# Altium schematic symbol library Ports2.54.SchLib: 37 symbols
Pins are listed as number, name and electrical type; pins without a type are passive.

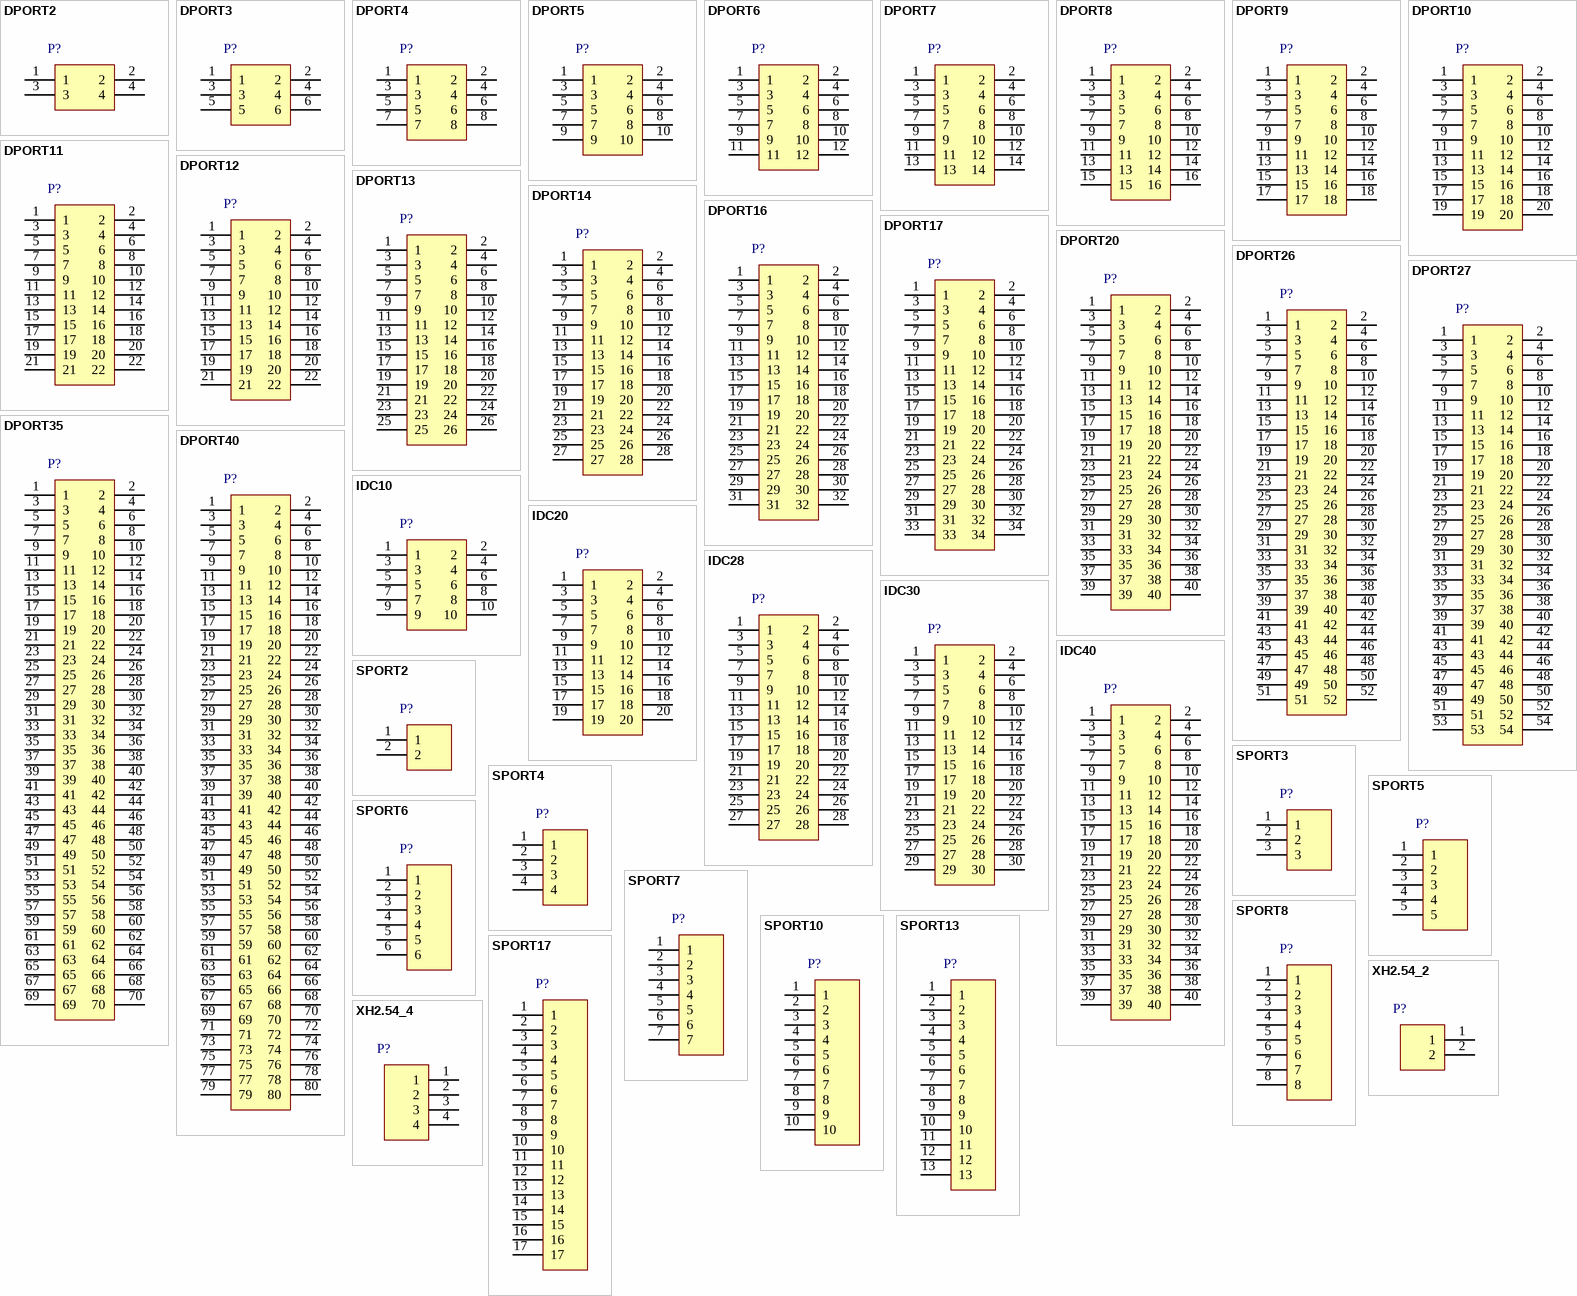
[diagram p0: symbols DPORT2 to XH2.54_4]

## DPORT2
designator P?, comment Dual 2 pin port  (value not drawn)
footprint 201S2X2
footprint 201S2X2_SMD
pins: 1, 2, 3, 4

## DPORT3
designator P?, comment Dual 3 pin port  (value not drawn)
footprint 201S2X3
pins: 1, 2, 3, 4, 5, 6

## DPORT4
designator P?, comment Dual 4 pin port  (value not drawn)
footprint 201S2X4
pins: 1, 2, 3, 4, 5, 6, 7, 8

## DPORT5
designator P?, comment Dual 5 pin port  (value not drawn)
footprint 201S2X5
pins: 1, 2, 3, 4, 5, 6, 7, 8, 9, 10

## DPORT6
designator P?, comment Dual 6 pin port  (value not drawn)
footprint 201S2X6
pins: 1, 2, 3, 4, 5, 6, 7, 8, 9, 10, 11, 12

## DPORT7
designator P?, comment Dual 7 pin port  (value not drawn)
footprint 201S2X7
pins: 1, 2, 3, 4, 5, 6, 7, 8, 9, 10, 11, 12, 13, 14

## DPORT8
designator P?, comment Dual 8 pin port  (value not drawn)
footprint 201S2X8
pins: 1, 2, 3, 4, 5, 6, 7, 8, 9, 10, 11, 12, 13, 14, 15, 16

## DPORT9
designator P?, comment Dual 9 pin port  (value not drawn)
footprint 201S2X9
pins: 1, 2, 3, 4, 5, 6, 7, 8, 9, 10, 11, 12, 13, 14, 15, 16, 17, 18

## DPORT10
designator P?, comment Dual 10 pin port  (value not drawn)
footprint 201S2X10
pins: 1, 2, 3, 4, 5, 6, 7, 8, 9, 10, 11, 12, 13, 14, 15, 16, 17, 18, 19, 20

## DPORT11
designator P?, comment Dual 11 pin port  (value not drawn)
footprint 201S2X11
pins: 1, 2, 3, 4, 5, 6, 7, 8, 9, 10, 11, 12, 13, 14, 15, 16, 17, 18, 19, 20, 21, 22

## DPORT12
designator P?, comment Dual 12 pin port  (value not drawn)
footprint 201S2X12
pins: 1, 2, 3, 4, 5, 6, 7, 8, 9, 10, 11, 12, 13, 14, 15, 16, 17, 18, 19, 20, 21, 22

## DPORT13
designator P?, comment Dual 13 pin port  (value not drawn)
footprint 201S2X13
pins: 1, 2, 3, 4, 5, 6, 7, 8, 9, 10, 11, 12, 13, 14, 15, 16, 17, 18, 19, 20, 21, 22, 23, 24, 25, 26

## DPORT14
designator P?, comment Dual 14 pin port  (value not drawn)
footprint 201S2X14
pins: 1, 2, 3, 4, 5, 6, 7, 8, 9, 10, 11, 12, 13, 14, 15, 16, 17, 18, 19, 20, 21, 22, 23, 24, 25, 26, 27, 28

## DPORT16
designator P?, comment Dual 16 pin port  (value not drawn)
footprint 201S2X16
pins: 1, 2, 3, 4, 5, 6, 7, 8, 9, 10, 11, 12, 13, 14, 15, 16, 17, 18, 19, 20, 21, 22, 23, 24, 25, 26, 27, 28, 29, 30, 31, 32

## DPORT17
designator P?, comment Dual 17 pin port  (value not drawn)
footprint 201S2X17
pins: 1, 2, 3, 4, 5, 6, 7, 8, 9, 10, 11, 12, 13, 14, 15, 16, 17, 18, 19, 20, 21, 22, 23, 24, 25, 26, 27, 28, 29, 30, 31, 32, 33, 34

## DPORT20
designator P?, comment Dual 20 pin port  (value not drawn)
footprint 201S2X20
pins: 1, 2, 3, 4, 5, 6, 7, 8, 9, 10, 11, 12, 13, 14, 15, 16, 17, 18, 19, 20, 21, 22, 23, 24, 25, 26, 27, 28, 29, 30, 31, 32, 33, 34, 35, 36, 37, 38, 39, 40

## DPORT26
designator P?, comment Dual 26 pin port  (value not drawn)
footprint 201S2X26 (Footprint not found)
pins: 1, 2, 3, 4, 5, 6, 7, 8, 9, 10, 11, 12, 13, 14, 15, 16, 17, 18, 19, 20, 21, 22, 23, 24, 25, 26, 27, 28, 29, 30, 31, 32, 33, 34, 35, 36, 37, 38, 39, 40, 41, 42, 43, 44, 45, 46, 47, 48, 49, 50, 51, 52

## DPORT27
designator P?, comment Dual 27 pin port  (value not drawn)
footprint 201S2X27 (Footprint not found)
pins: 1, 2, 3, 4, 5, 6, 7, 8, 9, 10, 11, 12, 13, 14, 15, 16, 17, 18, 19, 20, 21, 22, 23, 24, 25, 26, 27, 28, 29, 30, 31, 32, 33, 34, 35, 36, 37, 38, 39, 40, 41, 42, 43, 44, 45, 46, 47, 48, 49, 50, 51, 52, 53, 54

## DPORT35
designator P?, comment Dual 35 pin port  (value not drawn)
footprint 201S2X35 (Footprint not found)
pins: 1, 2, 3, 4, 5, 6, 7, 8, 9, 10, 11, 12, 13, 14, 15, 16, 17, 18, 19, 20, 21, 22, 23, 24, 25, 26, 27, 28, 29, 30, 31, 32, 33, 34, 35, 36, 37, 38, 39, 40, 41, 42, 43, 44, 45, 46, 47, 48, 49, 50, 51, 52, 53, 54, 55, 56, 57, 58, 59, 60, 61, 62, 63, 64, 65, 66, 67, 68, 69, 70

## DPORT40
designator P?, comment Dual 40 pin port  (value not drawn)
footprint 201S2X40 (Footprint not found)
pins: 1, 2, 3, 4, 5, 6, 7, 8, 9, 10, 11, 12, 13, 14, 15, 16, 17, 18, 19, 20, 21, 22, 23, 24, 25, 26, 27, 28, 29, 30, 31, 32, 33, 34, 35, 36, 37, 38, 39, 40, 41, 42, 43, 44, 45, 46, 47, 48, 49, 50, 51, 52, 53, 54, 55, 56, 57, 58, 59, 60, 61, 62, 63, 64, 65, 66, 67, 68, 69, 70, 71, 72, 73, 74, 75, 76, 77, 78, 79, 80

## IDC10
designator P?  (value not drawn)
footprint IDC10
footprint IDC10_RA (Right angle)
pins: 1, 2, 3, 4, 5, 6, 7, 8, 9, 10

## IDC20
designator P?  (value not drawn)
footprint IDC20
footprint IDC20_RA (Right angle)
pins: 1, 2, 3, 4, 5, 6, 7, 8, 9, 10, 11, 12, 13, 14, 15, 16, 17, 18, 19, 20

## IDC28
designator P?  (value not drawn)
footprint IDC28
pins: 1, 2, 3, 4, 5, 6, 7, 8, 9, 10, 11, 12, 13, 14, 15, 16, 17, 18, 19, 20, 21, 22, 23, 24, 25, 26, 27, 28

## IDC30
designator P?  (value not drawn)
footprint IDC30
pins: 1, 2, 3, 4, 5, 6, 7, 8, 9, 10, 11, 12, 13, 14, 15, 16, 17, 18, 19, 20, 21, 22, 23, 24, 25, 26, 27, 28, 29, 30

## IDC40
designator P?  (value not drawn)
footprint IDC40
pins: 1, 2, 3, 4, 5, 6, 7, 8, 9, 10, 11, 12, 13, 14, 15, 16, 17, 18, 19, 20, 21, 22, 23, 24, 25, 26, 27, 28, 29, 30, 31, 32, 33, 34, 35, 36, 37, 38, 39, 40

## SPORT2
designator P?, comment Single 2 pin port  (value not drawn)
footprint 201S1X2
pins: 1, 2

## SPORT3
designator P?, comment Single 3 pin port  (value not drawn)
footprint 201S1X3 (Footprint not found)
pins: 1, 2, 3

## SPORT4
designator P?, comment Single 4 pin port  (value not drawn)
footprint 201S1X4 (Footprint not found)
pins: 1, 2, 3, 4

## SPORT5
designator P?, comment Single 5 pin port  (value not drawn)
footprint 201S1X5 (Footprint not found)
pins: 1, 2, 3, 4, 5

## SPORT6
designator P?, comment Single 6 pin port  (value not drawn)
footprint 201S1X6 (Footprint not found)
pins: 1, 2, 3, 4, 5, 6

## SPORT7
designator P?, comment Single 7 pin port  (value not drawn)
footprint 201S1X7 (Footprint not found)
pins: 1, 2, 3, 4, 5, 6, 7

## SPORT8
designator P?, comment Single 8 pin port  (value not drawn)
footprint 201S1X8 (Footprint not found)
pins: 1, 2, 3, 4, 5, 6, 7, 8

## SPORT10
designator P?, comment Single 10 pin port  (value not drawn)
footprint 201S1X10 (Footprint not found)
pins: 1, 2, 3, 4, 5, 6, 7, 8, 9, 10

## SPORT13
designator P?, comment Single 13 pin port  (value not drawn)
footprint 201S1X13 (Footprint not found)
pins: 1, 2, 3, 4, 5, 6, 7, 8, 9, 10, 11, 12, 13

## SPORT17
designator P?, comment Single 17 pin port  (value not drawn)
footprint 201S1X17
pins: 1, 2, 3, 4, 5, 6, 7, 8, 9, 10, 11, 12, 13, 14, 15, 16, 17

## XH2.54_2
designator P?  (value not drawn)
2 pin XH2.54 port
footprint XH2.54-2
pins: 1, 2

## XH2.54_4
designator P?  (value not drawn)
4 pin XH2.54 port
footprint XH2.54-4
pins: 1, 2, 3, 4